# Altium schematic symbol library PIC18F46K22-I_P.SchLib: 1 symbol
Pins are listed as number, name and electrical type; pins without a type are passive.

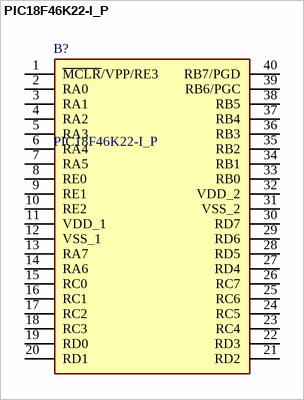
[diagram p0: symbol PIC18F46K22-I_P]

## PIC18F46K22-I_P
designator B?
40-Pin, Low-Power, High-Performance Microcontrollers with XLP Technology; Manufacturer_Name: Microchip; Manufacturer_Part_Number: PIC18F46K22-I/P; Geometry.Height: 6.35mm; Mouser Part Number: 579-PIC18F46K22IP; Mouser Price/Stock: https://www.mouser.co.uk/ProductDetail/Microchip-Technology-Atmel/PIC18F46K22-I-P?qs=RXaOwepKlZ25Gu9j%2FAjmfw%3D%3D; Datasheet Link: https://datasheet.datasheetarchive.com/originals/distributors/Datasheets-DGA18/353826.pdf
footprint DIP1543W58P254L5175H635Q40N
pins: 1 ~{MCLR}/VPP/RE3, 2 RA0, 3 RA1, 4 RA2, 5 RA3, 6 RA4, 7 RA5, 8 RE0, 9 RE1, 10 RE2, 11 VDD_1, 12 VSS_1, 13 RA7, 14 RA6, 15 RC0, 16 RC1, 17 RC2, 18 RC3, 19 RD0, 20 RD1, 21 RD2, 22 RD3, 23 RC4, 24 RC5, 25 RC6, 26 RC7, 27 RD4, 28 RD5, 29 RD6, 30 RD7, 31 VSS_2, 32 VDD_2, 33 RB0, 34 RB1, 35 RB2, 36 RB3, 37 RB4, 38 RB5, 39 RB6/PGC, 40 RB7/PGD